# Altium schematic symbol library ToradexMainBoard-V0I1.SCHLIB: 303 symbols (part 9 of 14)
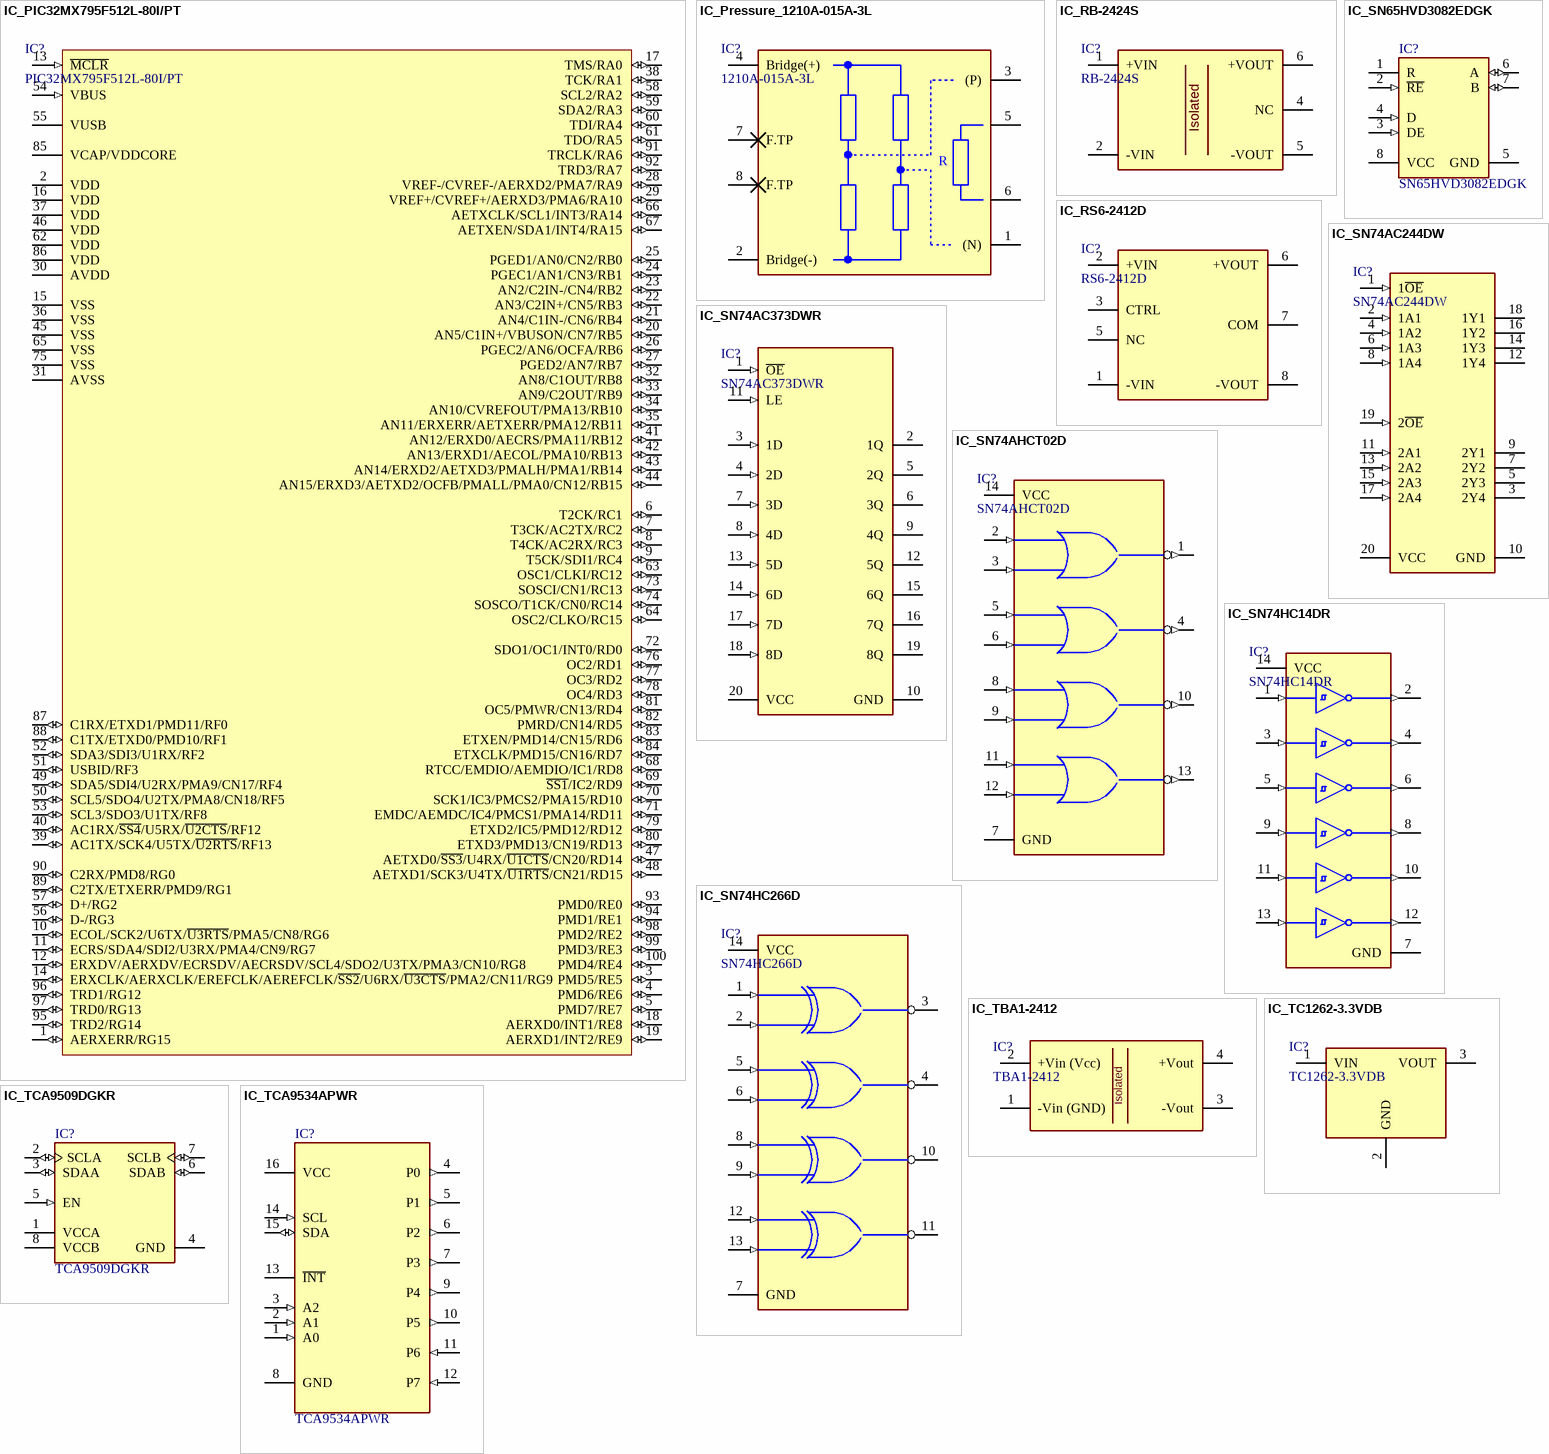
[diagram p23: symbols IC_PIC32MX795F512L-80I/PT to IC_TCA9534APWR]

## IC_RB-2424S
designator IC?, comment RB-2424S
CONV DC/DC 1W 24VIN 24VOUT; Manufacturer: Recom; Number of Outputs: 1; Efficiency: 85%; Min Input Voltage: 21.6V; Isolation Voltage: 1kV; Voltage - Output 1: 24V; Max Input Voltage: 26.4V; Max Output Current: 42mA; Isolation: Isolated; Supplier 1: Farnell; Manufacturer Part Number: RB-2424S; RoHS: Yes; Category: Voltage Regulators - Switching; Pricing 1: 1=6,41000, 5=5,31000, 10=4,76000, 20=4,39000, 50=4,10000 (EUR); Mount: Through Hole; Case/Package: SIP; Number of Pins: 5; Weight: 2.2g; Min Operating Temperature: -40°C; Max Operating Temperature: 85°C; Package Quantity: 25; Packaging: Rail/Tube; Series: ECONOLINE RB; Output Power: 1W; Max Power Dissipation: 1W; Max Output Voltage: 24V; Features: SCP; Nominal Input Voltage: 24V; Output Current: 42mA; Output Voltage: 24V; Length: 19.6mm; Width: 6mm; Height: 10.2mm; Depth: 6mm; RoHS Compliant: Yes; Lead Free: Lead Free; ComponentLink1URL: https://datasheet.ciiva.com/20216/84-2510e-20216936.pdf?src-supplier=Rapid+Electronics; ComponentLink1Description: https://datasheet.ciiva.com/20216/84-2510e-20216936.pdf?src-supplier=Rapid+Electronics; Supplier Part Number 1: 2846223
footprint RECOM-RB-2424S
pins: 1 +VIN (power) "Positive Supply Voltage, 2.7 V to 5.5 V.", 2 -VIN (power) "Positive Supply Voltage, 2.7 V to 5.5 V.", 4 NC (power) "Positive Supply Voltage, 2.7 V to 5.5 V.", 5 -VOUT (power) "Positive Supply Voltage, 2.7 V to 5.5 V.", 6 +VOUT (power) "Positive Supply Voltage, 2.7 V to 5.5 V."

## IC_RS6-2412D
designator IC?, comment RS6-2412D
DC DC CONVERTER +/-12V 6W; Manufacturer: Recom; Max Output Voltage: 12V; Supplier 1: Farnell; Manufacturer Part Number: RS6-2412D; RoHS: Yes; Category: Board Mount Modules; Stock 1: 22; Pricing 1: 1=21,50000, 5=20,04000, 10=18,61000, 20=17,17000, 50=15,74000 (EUR); Weight: 4g; Length: 21.8mm; Width: 9.2mm; Height: 11.1mm; Lead Free: Lead Free; RoHS Compliant: Yes; ComponentLink1URL: https://www.recom-power.com/pdf/Econoline/RS6.pdf?src-supplier=Digi-Key; ComponentLink1Description: https://www.recom-power.com/pdf/Econoline/RS6.pdf?src-supplier=Digi-Key; Supplier Part Number 1: 3255692
footprint Recom-RS6-2412D
pins: 1 -VIN (power) "A-side supplyVoltage (0.9V to VCCB - 1V)", 2 +VIN (power) "Supply ground", 3 CTRL (power) "B-side and device supplyVoltage (2.7V to 5.5V)", 5 NC (power) "B-side and device supplyVoltage (2.7V to 5.5V)", 6 +VOUT (power) "B-side and device supplyVoltage (2.7V to 5.5V)", 7 COM (power) "B-side and device supplyVoltage (2.7V to 5.5V)", 8 -VOUT (power) "B-side and device supplyVoltage (2.7V to 5.5V)"

## IC_SN65HVD3082EDGK
designator IC?, comment SN65HVD3082EDGK
TRANSCEIVER, RS485, 200KBPS, VSSOP-8; Device Type:Transceiver; IC Interface Type:RS485; No. of Drivers:1; Supply Voltage Min:4.5V; Supply Voltage Max:5.5V; Driver Case Style:VSSOP; No. of Pins:8; Operating Temperature Min:-40 C; ;RoHS Compliant: Yes; Manufacturer: Texas Instruments; Number of Transmitters: 1; Operating Supply Voltage: 5V; Min Supply Voltage: 4.5V; Max Supply Voltage: 5.5V; Nominal Supply Current: 900uA; Simplex/Duplex: Half Duplex; Supplier 1: Farnell; Manufacturer Part Number: SN65HVD3082EDGK; RoHS: Yes; Category: RS-232 / RS-422 / RS-485 Interface ICs; Stock 1: 125; Pricing 1: 1=2,81000, 10=2,23000, 25=2,10000, 50=1,90000, 100=1,68000, 250=1,47000, 500=1,43000, 1000=1,18000 (EUR); Case/Package: VSSOP; Number of Pins: 8; Weight: 0.00067oz; Contact Plating: Gold; Min Operating Temperature: -40°C; Max Operating Temperature: 85°C; Logic Function: Transceiver; Data Rate: 200Kbps; Number of Receivers: 1; Packaging: Rail/Tube; Number of Transceivers: 1; Package Quantity: 80; Number of Drivers: 1; Operating Supply Current: 900uA; Max Supply Current: 900uA; ESD Protection: Yes; Radiation Hardening: No; REACH SVHC: No SVHC; Lead Free: Lead Free; ComponentLink1URL: https://datasheet.ciiva.com/14427/sn65hvd3088e-14427605.pdf?src-supplier=Avnet; ComponentLink1Description: https://datasheet.ciiva.com/14427/sn65hvd3088e-14427605.pdf?src-supplier=Avnet; ComponentLink2URL: https://datasheet.ciiva.com/15151/getdatasheetpartid-241533-15151787.pdf?src-supplier=Verical; ComponentLink2Description: https://datasheet.ciiva.com/15151/getdatasheetpartid-241533-15151787.pdf?src-supplier=Verical; ComponentLink3URL: https://datasheet.ciiva.com/1766/sn65hvd3082e-1766596.pdf?src-supplier=Digi-Key; ComponentLink3Description: https://datasheet.ciiva.com/1766/sn65hvd3082e-1766596.pdf?src-supplier=Digi-Key; ComponentLink4URL: https://datasheet.ciiva.com/46393/1874612-46393162.pdf?src-supplier=Element14; ComponentLink4Description: https://datasheet.ciiva.com/46393/1874612-46393162.pdf?src-supplier=Element14; ComponentLink5URL: https://datasheet.ciiva.com/26030/sn65hvd3088e-26030892.pdf?src-supplier=Avnet+Europe; ComponentLink5Description: https://datasheet.ciiva.com/26030/sn65hvd3088e-26030892.pdf?src-supplier=Avnet+Europe; Supplier Part Number 1: 3007025
footprint IC_SN65HVD3082-TSOP8 (TSOP, 8-Leads, Body 3.1x3.1mm, Pitch 0.65mm, IPC High Density)
pins: 1 R (hiz), 2 ~{RE} (in), 3 DE (in), 4 D (in), 5 GND (power), 6 A (io), 7 B (io), 8 VCC (power)

## IC_SN74AC244DW
designator IC?, comment SN74AC244DW
NON INVERTING BUFFER, SOIC-20; Logic Device Type:Buffer, Non Inverting; Logic Case Style:SOIC; No. of Pins:20; Supply Voltage Min:2V; Supply Voltage Max:6V; Operating Temperature Min:-40 C; Operating Temperature Max:85 C ;RoHS Compliant: Yes; Manufacturer: Texas Instruments; Min Supply Voltage: 2V; Max Supply Voltage: 6V; Number of Channels: 8; Propagation Delay: 11.5ns; Logic Function: Buffer,Inverting; Number of Elements: 2; Number of Bits per Element: 4; High Level Output Current: -24mA; Low Level Output Current: 24mA; Polarity: Non-Inverting; Quiescent Current: 4uA; Supplier 1: Mouser; Manufacturer Part Number: SN74AC244DW; RoHS: Yes; Category: Buffers, Drivers and Transceivers; Stock 1: 370; Mount: Surface Mount; Case/Package: SOIC; Number of Pins: 20; Min Operating Temperature: -40°C; Max Operating Temperature: 85°C; Termination: SMD/SMT; Packaging: Rail/Tube; Package Quantity: 25; Number of Inputs: 8; Number of Outputs: 8; Number of Input Lines: 8; Number of Output Lines: 8; Turn-On Delay Time: 11.5ns; Number of Circuits: 8; Number of Bits: 8; Length: 12.8mm; Width: 7.52mm; Height: 2.35mm; Radiation Hardening: No; Lead Free: Lead Free; REACH SVHC: No SVHC; RoHS Compliant: Yes; ComponentLink1URL: https://datasheet.ciiva.com/14300/sn54ac244-sp-14300856.pdf?src-supplier=Avnet; ComponentLink1Description: https://datasheet.ciiva.com/14300/sn54ac244-sp-14300856.pdf?src-supplier=Avnet; ComponentLink2URL: https://datasheet.ciiva.com/15094/getdatasheetpartid-33810-15094058.pdf?src-supplier=Verical; ComponentLink2Description: https://datasheet.ciiva.com/15094/getdatasheetpartid-33810-15094058.pdf?src-supplier=Verical; ComponentLink3URL: https://datasheet.ciiva.com/41456/001016097-da-01-en-ic-b-dvr-sn74ac-sn74ac244dw-soic-20-tid-41456323.pdf?src-supplier=Conrad; ComponentLink3Description: https://datasheet.ciiva.com/41456/001016097-da-01-en-ic-b-dvr-sn74ac-sn74ac244dw-soic-20-tid-41456323.pdf?src-supplier=Conrad; ComponentLink4URL: https://datasheet.ciiva.com/26248/scas514e-26248230.pdf?src-supplier=Avnet+Europe; ComponentLink4Description: https://datasheet.ciiva.com/26248/scas514e-26248230.pdf?src-supplier=Avnet+Europe; ComponentLink5URL: https://datasheet.ciiva.com/7748/1814964-7748023.pdf?src-supplier=Element14; ComponentLink5Description: https://datasheet.ciiva.com/7748/1814964-7748023.pdf?src-supplier=Element14; ComponentLink6URL: https://datasheet.ciiva.com/1841/sn74ac244-1841918.pdf?src-supplier=Digi-Key; ComponentLink6Description: https://datasheet.ciiva.com/1841/sn74ac244-1841918.pdf?src-supplier=Digi-Key; Supplier Part Number 1: 595-SN74AC244DW
footprint SN74AC244DW_SOIC20 (SOIC, 20-Leads, Body 13x7.6mm, Pitch 1.27mm, IPC Medium Density)
pins: 1 1~{OE} (in) "Output Enable 1", 2 1A1 (in) "1A1 Input", 3 2Y4 (hiz) "2Y4 Output", 4 1A2 (in) "1A2 Input", 5 2Y3 (hiz) "2Y3 Output", 6 1A3 (in) "1A3 Input", 7 2Y2 (hiz) "2Y2 Output", 8 1A4 (in) "1A4 Input", 9 2Y1 (hiz) "2Y1 Output", 10 GND (power) "Ground Pin", 11 2A1 (in) "2A1 Input", 12 1Y4 (hiz) "1Y4 Output", 13 2A2 (in) "2A2 Input", 14 1Y3 (hiz) "1Y3 Output", 15 2A3 (in) "2A3 Input", 16 1Y2 (hiz) "1Y2 Output", 17 2A4 (in) "2A4 Input", 18 1Y1 (hiz) "1Y1 Output", 19 2~{OE} (in) "Output Enable 2", 20 VCC (power) "Power Pin"

## IC_SN74AC373DWR
designator IC?, comment SN74AC373DWR
Latch Transparent 3-ST 8-CH D-Type 20-Pin SOIC T/R; Manufacturer: Texas Instruments; Propagation Delay: 15ns; Max Supply Voltage: 6V; Min Supply Voltage: 2V; Number of Elements: 1; Turn-On Delay Time: 7.5ns; High Level Output Current: -24mA; Low Level Output Current: 24mA; Number of Circuits: 8; Polarity: Non-Inverting; Number of Output Lines: 3; Logic Function: D-Type,Latch; Output Type: 3-STATE; Quiescent Current: 4uA; Supplier 1: Mouser; Manufacturer Part Number: SN74AC373DWR; RoHS: Yes; Category: Latches and Flip Flops; Stock 1: 2816; Mount: Surface Mount; Case/Package: SOIC; Number of Pins: 20; Weight: 0.017662oz; Contact Plating: Gold; Min Operating Temperature: -40°C; Max Operating Temperature: 85°C; Package Quantity: 2000; Packaging: Tape and Reel; Number of Input Lines: 8; Number of Bits: 8; Number of Outputs: 8; Output Current: 24mA; Independent Circuits: 1; Series: 74AC; Technology: CMOS; Number of Channels: 8; Radiation Hardening: No; Lead Free: Lead Free; RoHS Compliant: Yes; REACH SVHC: No SVHC; ComponentLink1URL: https://datasheet.ciiva.com/1881/sn74ac373-1881568.pdf?src-supplier=Digi-Key; ComponentLink1Description: https://datasheet.ciiva.com/1881/sn74ac373-1881568.pdf?src-supplier=Digi-Key; ComponentLink2URL: https://datasheet.ciiva.com/34303/1998837-34303730.pdf?src-supplier=Jameco; ComponentLink2Description: https://datasheet.ciiva.com/34303/1998837-34303730.pdf?src-supplier=Jameco; ComponentLink3URL: https://datasheet.ciiva.com/15088/getdatasheetpartid-98665-15088188.pdf?src-supplier=Verical; ComponentLink3Description: https://datasheet.ciiva.com/15088/getdatasheetpartid-98665-15088188.pdf?src-supplier=Verical; ComponentLink4URL: https://datasheet.ciiva.com/1881/sn74ac373-1881569.pdf?src-supplier=Digi-Key; ComponentLink4Description: https://datasheet.ciiva.com/1881/sn74ac373-1881569.pdf?src-supplier=Digi-Key; ComponentLink5URL: https://datasheet.ciiva.com/1881/sn74ac373-1881570.pdf?src-supplier=Digi-Key; ComponentLink5Description: https://datasheet.ciiva.com/1881/sn74ac373-1881570.pdf?src-supplier=Digi-Key; ComponentLink6URL: https://datasheet.ciiva.com/14307/sn74ac373-14307743.pdf?src-supplier=Avnet; ComponentLink6Description: https://datasheet.ciiva.com/14307/sn74ac373-14307743.pdf?src-supplier=Avnet; Supplier Part Number 1: 595-SN74AC373DWR
footprint SN74AC373_SOIC20 (SOIC, 20-Leads, Body 13x7.6mm, Pitch 1.27mm, IPC Medium Density)
pins: 1 ~{OE} (in) "Output Enable", 2 1Q (hiz) "1Q Output", 3 1D (in) "1D Input", 4 2D (in) "2D Input", 5 2Q (hiz) "2Q Output", 6 3Q (hiz) "3Q Output", 7 3D (in) "3D Input", 8 4D (in) "4D Input", 9 4Q (hiz) "4Q Output", 10 GND (power) "Ground Pin", 11 LE (in) "Latch Enable", 12 5Q (hiz) "5Q Output", 13 5D (in) "5D Input", 14 6D (in) "6D Input", 15 6Q (hiz) "6Q Output", 16 7Q (hiz) "7Q Output", 17 7D (in) "7D Input", 18 8D (in) "8D Input", 19 8Q (hiz) "8Q Output", 20 VCC (power) "Power Pin"

## IC_SN74AHCT02D
designator IC?, comment SN74AHCT02D
IC GATE NOR 4CH 2-INP 14-SOIC; Manufacturer: Texas Instruments; Operating Supply Voltage: 5V; Number of Outputs: 1; Max Supply Voltage: 5.5V; Min Supply Voltage: 4.5V; Logic Function: NOR GATE; Number of Elements: 4; Propagation Delay: 8.5ns; Output Current: 8mA; Number of Inputs: 2; Quiescent Current: 2uA; High Level Output Current: -8mA; Schmitt Trigger Input: No; Supplier 1: Farnell; Manufacturer Part Number: SN74AHCT02D; RoHS: Yes; Category: Logic Gates; Stock 1: 114; Pricing 1: 5=0,22500, 50=0,19600, 100=0,16700, 250=0,15200 (EUR); Mount: Surface Mount; Case/Package: SOIC; Number of Pins: 14; Weight: 0.004564oz; Min Operating Temperature: -40°C; Max Operating Temperature: 85°C; Packaging: Rail/Tube; Package Quantity: 50; Number of Gates: 4; Number of Input Lines: 2; Number of Output Lines: 1; Low Level Output Current: 8mA; Number of Circuits: 4; Turn-On Delay Time: 8.5ns; Number of Bits: 4; Length: 8.65mm; Width: 3.91mm; Height: 1.58mm; Radiation Hardening: No; REACH SVHC: No SVHC; Lead Free: Lead Free; ComponentLink1URL: https://datasheet.ciiva.com/14291/sn54ahct02-14291194.pdf?src-supplier=Avnet; ComponentLink1Description: https://datasheet.ciiva.com/14291/sn54ahct02-14291194.pdf?src-supplier=Avnet; ComponentLink2URL: https://datasheet.ciiva.com/1876/sn74ahct02-1876061.pdf?src-supplier=Digi-Key; ComponentLink2Description: https://datasheet.ciiva.com/1876/sn74ahct02-1876061.pdf?src-supplier=Digi-Key; ComponentLink3URL: https://datasheet.ciiva.com/26218/sn54ahct02-26218111.pdf?src-supplier=Avnet+Europe; ComponentLink3Description: https://datasheet.ciiva.com/26218/sn54ahct02-26218111.pdf?src-supplier=Avnet+Europe; Supplier Part Number 1: 1739981
footprint 74AHCT02_SOIC14 (SOIC, 14-Leads, Body 8.75x4mm, Pitch 1.27mm, IPC Low Density)
pins: 1 1Y (out) "1Y output", 2 1A (in) "1A input", 3 1B (in) "1B input", 4 2Y (out) "2Y output", 5 2A (in) "2A input", 6 2B (in) "2B input", 7 GND (power), 8 3A (in) "3A input", 9 3B (in) "3B input", 10 3Y (out) "3Y output", 11 4A (in) "4A input", 12 4B (in) "4B input", 13 4Y (out) "4Y output", 14 VCC (power)

## IC_SN74HC14DR
designator IC?, comment SN74HC14DR
Inverter Schmitt Trigger 6-Element CMOS 14-Pin SOIC T/R; Manufacturer: Texas Instruments; Min Supply Voltage: 2V; Max Supply Voltage: 6V; Logic Function: Buffer,Inverter,Schmitt Trigger; Number of Elements: 6; Operating Supply Voltage: 5V; Number of Inputs: 1; Propagation Delay: 155ns; Quiescent Current: 2uA; High Level Output Current: -5.2mA; Low Level Output Current: 5.2mA; Turn-On Delay Time: 31ns; Schmitt Trigger Input: Yes; Supplier 1: Mouser; Manufacturer Part Number: SN74HC14DR; RoHS: Yes; Category: Logic Gates; Mount: Surface Mount; Case/Package: SOIC; Number of Pins: 14; Weight: 0.004318oz; Contact Plating: Gold; Min Operating Temperature: -40°C; Max Operating Temperature: 85°C; Packaging: Tape and Reel; Package Quantity: 2500; Number of Circuits: 6; Number of Gates: 6; Number of Bits: 6; Series: 74HC; Input Type: SCHMITT TRIGGER; Technology: CMOS; Output Current: 5.2mA; Length: 8.65mm; Width: 3.91mm; Height: 1.58mm; Radiation Hardening: No; Lead Free: Lead Free; RoHS Compliant: Yes; REACH SVHC: No SVHC; ComponentLink1URL: https://datasheet.ciiva.com/19481/1999661-19481666.pdf?src-supplier=Jameco; ComponentLink1Description: https://datasheet.ciiva.com/19481/1999661-19481666.pdf?src-supplier=Jameco; ComponentLink2URL: https://datasheet.ciiva.com/15089/getdatasheetpartid-253157-15089478.pdf?src-supplier=Verical; ComponentLink2Description: https://datasheet.ciiva.com/15089/getdatasheetpartid-253157-15089478.pdf?src-supplier=Verical; ComponentLink3URL: https://datasheet.ciiva.com/7281/sn74hc14-7281611.pdf?src-supplier=Newark; ComponentLink3Description: https://datasheet.ciiva.com/7281/sn74hc14-7281611.pdf?src-supplier=Newark; ComponentLink4URL: https://datasheet.ciiva.com/1864/sn74hc14-1864641.pdf?src-supplier=Digi-Key; ComponentLink4Description: https://datasheet.ciiva.com/1864/sn74hc14-1864641.pdf?src-supplier=Digi-Key; ComponentLink5URL: https://datasheet.ciiva.com/1864/sn74hc14-1864642.pdf?src-supplier=Digi-Key; ComponentLink5Description: https://datasheet.ciiva.com/1864/sn74hc14-1864642.pdf?src-supplier=Digi-Key; ComponentLink6URL: https://datasheet.ciiva.com/1864/sn74hc14-1864643.pdf?src-supplier=Digi-Key; ComponentLink6Description: https://datasheet.ciiva.com/1864/sn74hc14-1864643.pdf?src-supplier=Digi-Key; ComponentLink7URL: https://datasheet.ciiva.com/14290/sn54hc14-14290367.pdf?src-supplier=Avnet; ComponentLink7Description: https://datasheet.ciiva.com/14290/sn54hc14-14290367.pdf?src-supplier=Avnet; Supplier Part Number 1: 595-SN74HC14DR
footprint IC_SN74HC14DR-SO14
pins: 1 1A (in), 2 1Y (out), 3 2A (in), 4 2Y (out), 5 3A (in), 6 3Y (out), 7 GND (power), 8 4Y (out), 9 4A (in), 10 5Y (out), 11 5A (in), 12 6Y (out), 13 6A (in), 14 VCC (power)

## IC_SN74HC266D
designator IC?, comment SN74HC266D
IC GATE XNOR 4CH 2IN OD 14SOIC; Manufacturer: Texas Instruments; Output Current: 50mA; Propagation Delay: 26ns; Number of Circuits: 4; Min Supply Voltage: 2V; Max Supply Voltage: 6V; Low Level Output Current: 5.2mA; Quiescent Current: 2uA; Logic Function: NOR GATE,XNOR; High Level Output Current: -5uA; Number of Inputs: 2; Operating Supply Voltage: 5V; Number of Outputs: 1; Schmitt Trigger Input: No; Supplier 1: Farnell; Manufacturer Part Number: SN74HC266D; RoHS: Yes; Category: Logic Gates; Stock 1: 1124; Pricing 1: 1=0,48800, 25=0,48100, 50=0,47400, 100=0,46700, 250=0,45900, 500=0,45200, 1000=0,44500, 2500=0,43800 (EUR); Mount: Surface Mount; Case/Package: SOIC; Number of Pins: 14; Weight: 0.004564oz; Contact Plating: Gold; Min Operating Temperature: -40°C; Max Operating Temperature: 85°C; Packaging: Rail/Tube; Package Quantity: 50; Number of Gates: 4; Turn-On Delay Time: 26ns; Number of Elements: 4; Number of Bits: 4; Number of Input Lines: 2; Number of Output Lines: 1; Length: 8.65mm; Width: 3.91mm; Height: 1.58mm; Radiation Hardening: No; Lead Free: Lead Free; REACH SVHC: No SVHC; ComponentLink1URL: https://datasheet.ciiva.com/26219/sn74hc266-26219587.pdf?src-supplier=Avnet+Europe; ComponentLink1Description: https://datasheet.ciiva.com/26219/sn74hc266-26219587.pdf?src-supplier=Avnet+Europe; ComponentLink2URL: https://datasheet.ciiva.com/41456/001016717-da-01-en-ic-qua-2in-ex-nor-sn74hc266d-soic-14-tid-41456865.pdf?src-supplier=Conrad; ComponentLink2Description: https://datasheet.ciiva.com/41456/001016717-da-01-en-ic-qua-2in-ex-nor-sn74hc266d-soic-14-tid-41456865.pdf?src-supplier=Conrad; ComponentLink3URL: https://datasheet.ciiva.com/1867/sn74hc266-1867266.pdf?src-supplier=Digi-Key; ComponentLink3Description: https://datasheet.ciiva.com/1867/sn74hc266-1867266.pdf?src-supplier=Digi-Key; ComponentLink4URL: https://datasheet.ciiva.com/7948/1831322-7948918.pdf?src-supplier=Element14; ComponentLink4Description: https://datasheet.ciiva.com/7948/1831322-7948918.pdf?src-supplier=Element14; ComponentLink5URL: https://datasheet.ciiva.com/14290/sn74hc266-14290570.pdf?src-supplier=Avnet; ComponentLink5Description: https://datasheet.ciiva.com/14290/sn74hc266-14290570.pdf?src-supplier=Avnet; Supplier Part Number 1: 3006569
footprint SN74HC266_SOIC14 (SOIC, 14-Leads, Body 8.75x4mm, Pitch 1.27mm, IPC Low Density)
pins: 1 1A (in), 2 1B (in), 3 1Y (oc), 4 2Y (oc), 5 2A (in), 6 2B (in), 7 GND (power), 8 3A (in), 9 3B (in), 10 3Y (oc), 11 4Y (oc), 12 4A (in), 13 4B (in), 14 VCC (power)

## IC_TBA1-2412
designator IC?, comment TBA1-2412
Manufacturer: Traco Power; Supplier 1: Farnell; Manufacturer Part Number: TBA1-2412; RoHS: No; Category: Board Mount Modules; Stock 1: 11; Pricing 1: 1=3,01000, 10=2,91000, 25=2,67000, 150=2,62000, 250=2,56000 (EUR); Supplier Part Number 1: 3259998
footprint Traco-TBA1-2412-THT
pins: 1 -Vin (GND), 2 +Vin (Vcc), 3 -Vout, 4 +Vout
text: Isolated

## IC_TC1262-3.3VDB
designator IC?, comment TC1262-3.3VDB
500mA Fixed Output CMOS LDO,  SOT-223; Manufacturer: Microchip; Output Voltage: 3.3V; Accuracy: 0.5%; Min Input Voltage: 2.7V; Max Input Voltage: 6V; Number of Outputs: 1; Dropout Voltage: 350mV; Polarity: Positive; Quiescent Current: 80uA; Supplier 1: Farnell; Manufacturer Part Number: TC1262-3.3VDB; RoHS: Yes; Category: Voltage Regulators - Linear; Stock 1: 2351; Pricing 1: 1=0,44500, 10=0,41000, 25=0,37500, 100=0,34000 (EUR); Mount: Surface Mount; Case/Package: SOT-223; Number of Pins: 3; Min Operating Temperature: -40°C; Max Operating Temperature: 125°C; Packaging: Rail/Tube; Max Output Current: 500mA; Output Current: 500mA; Package Quantity: 78; Output Type: Fixed; Number of Regulators: 1; Voltage Rating: 6V; Output Voltage Accuracy: 0.5%; Length: 6.7mm; Width: 3.7mm; Height: 1.7mm; Radiation Hardening: No; REACH SVHC: No SVHC; Lead Free: Lead Free; ComponentLink1URL: https://datasheet.ciiva.com/4885/21373b-68613-4885680.pdf?src-supplier=Mouser; ComponentLink1Description: https://datasheet.ciiva.com/4885/21373b-68613-4885680.pdf?src-supplier=Mouser; ComponentLink2URL: https://datasheet.ciiva.com/26344/651849-da-01-en-ic-reg-ldo-tc1262-3-3vdb-sot-223-3-mcp-26344412.pdf?src-supplier=Conrad; ComponentLink2Description: https://datasheet.ciiva.com/26344/651849-da-01-en-ic-reg-ldo-tc1262-3-3vdb-sot-223-3-mcp-26344412.pdf?src-supplier=Conrad; ComponentLink3URL: https://datasheet.ciiva.com/3224/21373b-3224181.pdf?src-supplier=Avnet; ComponentLink3Description: https://datasheet.ciiva.com/3224/21373b-3224181.pdf?src-supplier=Avnet; ComponentLink4URL: https://datasheet.ciiva.com/16491/21373b-16491925.pdf?src-supplier=Avnet+Asia; ComponentLink4Description: https://datasheet.ciiva.com/16491/21373b-16491925.pdf?src-supplier=Avnet+Asia; ComponentLink5URL: https://datasheet.ciiva.com/16493/21373c-16493594.pdf?src-supplier=Future+Electronics; ComponentLink5Description: https://datasheet.ciiva.com/16493/21373c-16493594.pdf?src-supplier=Future+Electronics; ComponentLink6URL: https://datasheet.ciiva.com/17363/21373b-17363674.pdf?src-supplier=Avnet+Europe; ComponentLink6Description: https://datasheet.ciiva.com/17363/21373b-17363674.pdf?src-supplier=Avnet+Europe; ComponentLink7URL: https://datasheet.ciiva.com/2040/filehandler-aspxddocname-en026002-2040971.pdf?src-supplier=Digi-Key; ComponentLink7Description: https://datasheet.ciiva.com/2040/filehandler-aspxddocname-en026002-2040971.pdf?src-supplier=Digi-Key; Supplier Part Number 1: 1852183
footprint TC1262_SOT-223
pins: 1 VIN (power) "A-side supplyVoltage (0.9V to VCCB - 1V)", 2 GND (power) "Supply ground", 3 VOUT (power) "B-side and device supplyVoltage (2.7V to 5.5V)"

## IC_TCA9509DGKR
designator IC?, comment TCA9509DGKR
TEXAS INSTRUMENTS - TCA9509DGKR - Interfaz Especializada, I2C, SMBus, Aplicaciones de Sistemas I2C Bus y SMBus, 900 mV, 5.5 V, VSSOP; Min Supply Voltage: 900mV; Max Supply Voltage: 5.5V; Propagation Delay: 132.8ns; Max Frequency: 400kHz; Number of Outputs: 2; Supplier 1: Farnell; Supplier Part Number 1: 3009545; Manufacturer: Texas Instruments; Manufacturer Part Number: TCA9509DGKR; RoHS: Yes; Category: Interface ICs; Stock 1: 1979; Pricing 1: 1=0,72700, 50=0,64300, 100=0,55800, 250=0,49400, 500=0,46600, 1000=0,36300, 2500=0,33500, 5000=0,32800 (EUR); Case/Package: VSSOP; Number of Pins: 8; Weight: 0.001058oz; Contact Plating: Gold; Min Operating Temperature: -40°C; Max Operating Temperature: 85°C; Packaging: Tape and Reel; Package Quantity: 1; Length: 3.1mm; Height: 0.95mm; Width: 3.1mm; Radiation Hardening: No; REACH SVHC: No SVHC; Lead Free: Lead Free; ComponentLink1URL: https://datasheet.ciiva.com/22791/tca9509-22791264.pdf?src-supplier=Farnell; ComponentLink1Description: https://datasheet.ciiva.com/22791/tca9509-22791264.pdf?src-supplier=Farnell; ComponentLink2URL: https://datasheet.ciiva.com/26911/getdatasheetpartid-476504-26911504.pdf?src-supplier=Verical; ComponentLink2Description: https://datasheet.ciiva.com/26911/getdatasheetpartid-476504-26911504.pdf?src-supplier=Verical; ComponentLink3URL: https://datasheet.ciiva.com/3149/tca9509-3149522.pdf?src-supplier=Avnet; ComponentLink3Description: https://datasheet.ciiva.com/3149/tca9509-3149522.pdf?src-supplier=Avnet; ComponentLink4URL: https://datasheet.ciiva.com/41460/001187989-da-01-en-ic-i2c-bus-rep-l-tca9509dgkr-vssop-8-tid-41460370.pdf?src-supplier=Conrad; ComponentLink4Description: https://datasheet.ciiva.com/41460/001187989-da-01-en-ic-i2c-bus-rep-l-tca9509dgkr-vssop-8-tid-41460370.pdf?src-supplier=Conrad; ComponentLink5URL: https://datasheet.ciiva.com/1784/tca9509-1784225.pdf?src-supplier=Digi-Key; ComponentLink5Description: https://datasheet.ciiva.com/1784/tca9509-1784225.pdf?src-supplier=Digi-Key; ComponentLink6URL: https://datasheet.ciiva.com/1784/tca9509-1784226.pdf?src-supplier=Digi-Key; ComponentLink6Description: https://datasheet.ciiva.com/1784/tca9509-1784226.pdf?src-supplier=Digi-Key; ComponentLink7URL: https://datasheet.ciiva.com/1784/tca9509-1784227.pdf?src-supplier=Digi-Key; ComponentLink7Description: https://datasheet.ciiva.com/1784/tca9509-1784227.pdf?src-supplier=Digi-Key; ComponentLink8URL: https://datasheet.ciiva.com/26005/tca9509-26005292.pdf?src-supplier=Avnet+Europe; ComponentLink8Description: https://datasheet.ciiva.com/26005/tca9509-26005292.pdf?src-supplier=Avnet+Europe
footprint TCA9509DGKR_VSSOP8 (TSOP, 8-Leads, Body 3.1x3.1mm, Pitch 0.65mm, IPC High Density)
pins: 1 VCCA (power) "A-side supplyVoltage (0.9V to VCCB - 1V)", 2 SCLA (io) "Serial clock bus, A side.", 3 SDAA (io) "Serial data bus, A side.", 4 GND (power) "Supply ground", 5 EN (in) "Active-high repeater enable input", 6 SDAB (io) "Serial data bus, B side. Connect to VCCB through a pullup resistor.", 7 SCLB (io) "Serial clock bus, B side. Connect to VCCB through a pullup resistor.", 8 VCCB (power) "B-side and device supplyVoltage (2.7V to 5.5V)"

## IC_TCA9534APWR
designator IC?, comment TCA9534APWR
IC I/O EXPANDER I2C 8B 16TSSOP; Manufacturer: Texas Instruments; Number of I/Os: 8; Frequency: 400kHz; Supplier 1: Mouser; Manufacturer Part Number: TCA9534APWR; RoHS: Yes; Category: Interface ICs; Stock 1: 3722; Pricing 1: 1=1,19000, 10=1,01000, 100=0,77500, 250=0,68500, 500=0,64800, 1000=0,50400 (USD); Mount: Surface Mount; Case/Package: TSSOP; Number of Pins: 16; Contact Plating: Gold; Min Operating Temperature: -40°C; Max Operating Temperature: 85°C; Packaging: Tape and Reel; Interface: I2C; Number of Outputs: 8; Lead Free: Lead Free; ComponentLink1URL: http://www.ti.com/lit/pdf/sszc003?src-supplier=Digi-Key; ComponentLink1Description: http://www.ti.com/lit/pdf/sszc003?src-supplier=Digi-Key; ComponentLink2URL: http://www.ti.com/general/docs/lit/getliterature.tsp?genericPartNumber=TCA9534A&&fileType=pdf&src-supplier=Avnet; ComponentLink2Description: http://www.ti.com/general/docs/lit/getliterature.tsp?genericPartNumber=TCA9534A&&fileType=pdf&src-supplier=Avnet; ComponentLink3URL: http://www.ti.com/lit/ds/symlink/tca9534a.pdf?src-supplier=Digi-Key; ComponentLink3Description: http://www.ti.com/lit/ds/symlink/tca9534a.pdf?src-supplier=Digi-Key; ComponentLink4URL: http://www.ti.com/general/docs/lit/getliterature.tsp?genericPartNumber=TCA9534A&&fileType=pdf&src-supplier=Avnet+Asia; ComponentLink4Description: http://www.ti.com/general/docs/lit/getliterature.tsp?genericPartNumber=TCA9534A&&fileType=pdf&src-supplier=Avnet+Asia; Supplier Part Number 1: 595-TCA9534APWR
footprint TCA9534APWR_TSSOP16
pins: 1 A0 (in), 2 A1 (in), 3 A2 (in), 4 P0 (out), 5 P1 (out), 6 P2 (out), 7 P3 (out), 8 GND (power), 9 P4 (out), 10 P5 (out), 11 P6 (in), 12 P7 (in), 13 ~{INT} (oc), 14 SCL (in), 15 SDA (io), 16 VCC (power)

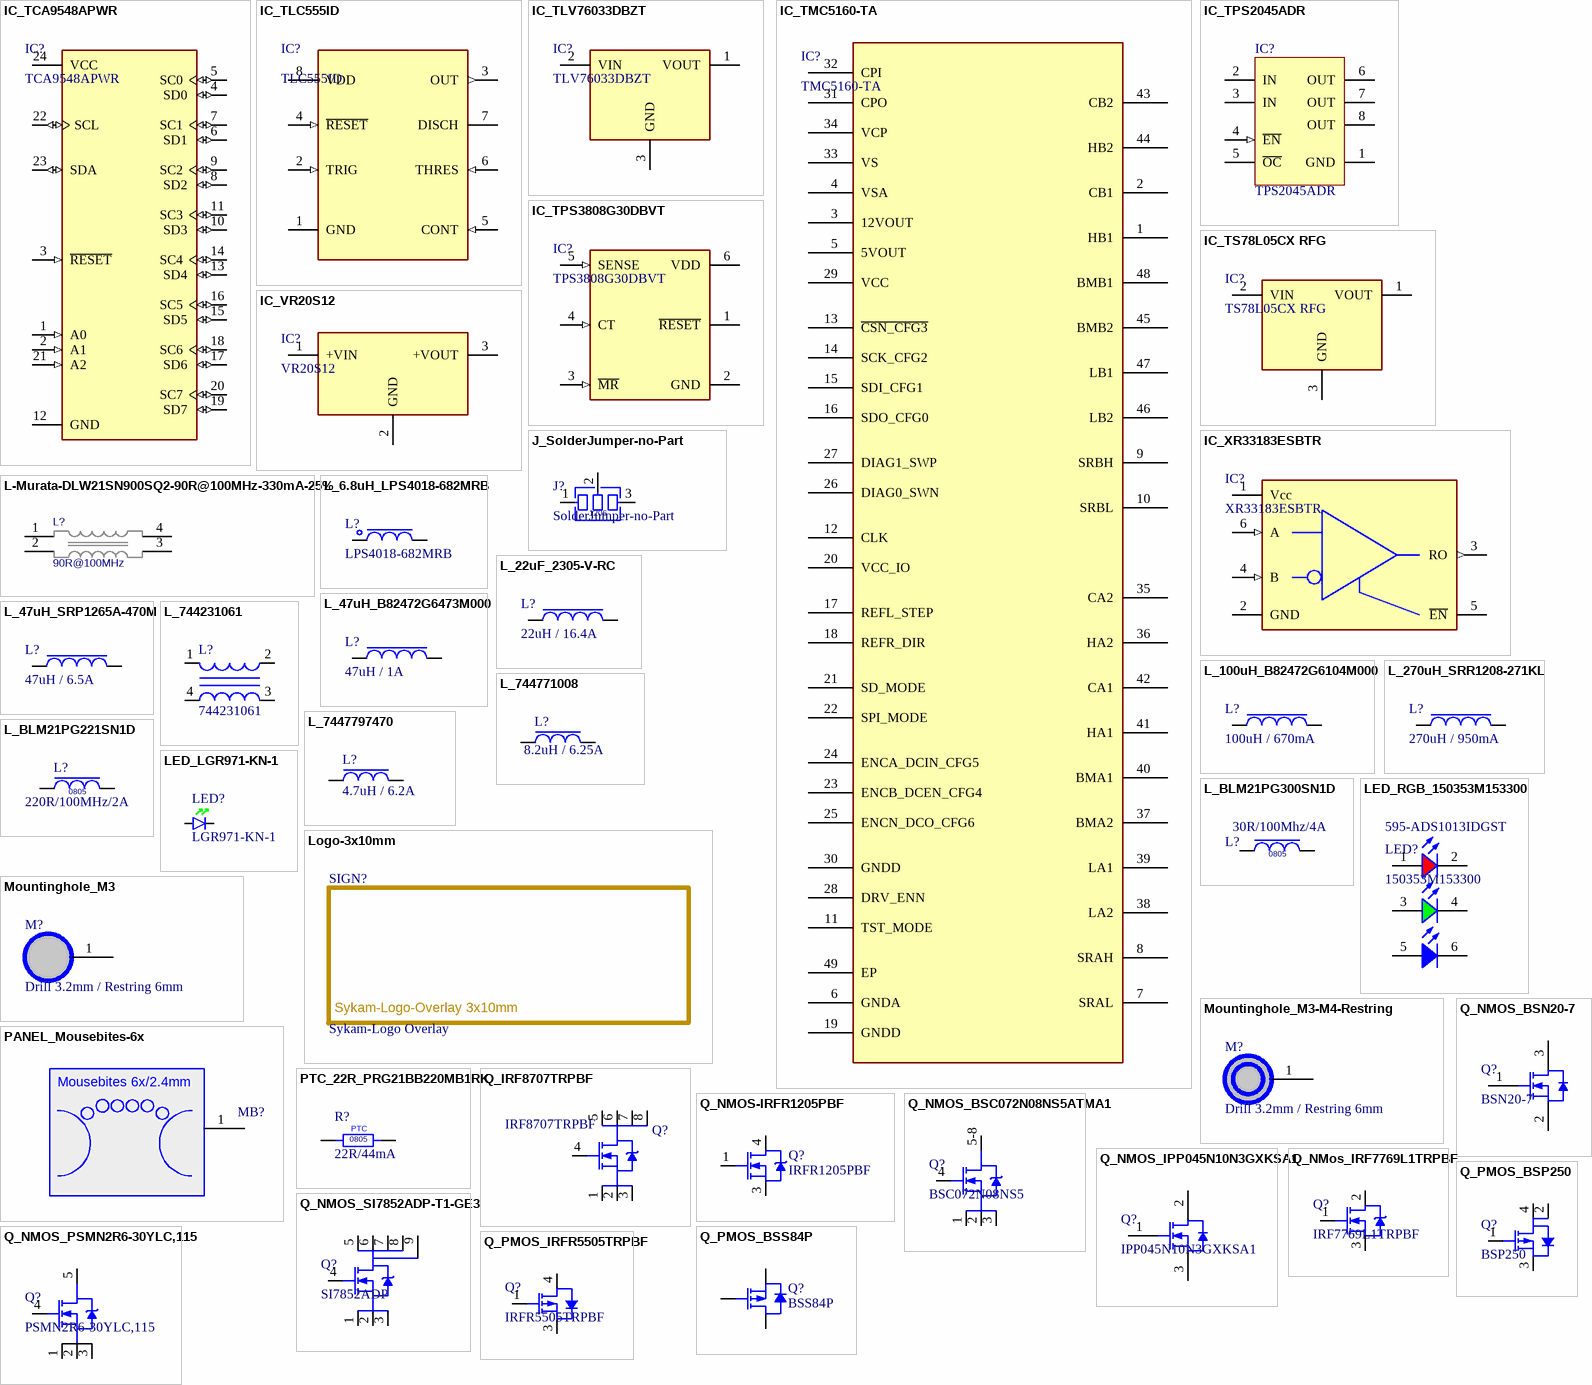
[diagram p13: symbols IC_TCA9548APWR to Q_PMOS_IRFR5505TRPBF]

## IC_TCA9548APWR
designator IC?, comment TCA9548APWR
IC I2C SW 8CH W/RESET 24TSSOP; Manufacturer: Texas Instruments; Supply Type: Single; Independent Circuits: 1; Max Supply Voltage: 5.5V; Min Supply Voltage: 1.65V; On-State Resistance: 70R; Max Supply Current: 80uA; Supplier 1: Mouser; Manufacturer Part Number: TCA9548APWR; RoHS: Yes; Category: Decoders and Multiplexers; Stock 1: 4104; Mount: Surface Mount; Case/Package: TSSOP; Number of Pins: 24; Contact Plating: Gold; Min Operating Temperature: -40°C; Max Operating Temperature: 85°C; Packaging: Tape and Reel; Package Quantity: 2000; Series: TCA; RoHS Compliant: Yes; Lead Free: Lead Free; Reach SVHC Compliant: Yes; ComponentLink1URL: https://datasheet.ciiva.com/6614/tca9548a-6614721.pdf?src-supplier=Digi-Key; ComponentLink1Description: https://datasheet.ciiva.com/6614/tca9548a-6614721.pdf?src-supplier=Digi-Key; Supplier Part Number 1: 595-TCA9548APWR
footprint IC-TCA9548-TSSOP24
pins: 1 A0 (in), 2 A1 (in), 3 ~{RESET} (in), 4 SD0 (io), 5 SC0 (io), 6 SD1 (io), 7 SC1 (io), 8 SD2 (io), 9 SC2 (io), 10 SD3 (io), 11 SC3 (io), 12 GND (power), 13 SD4 (io), 14 SC4 (io), 15 SD5 (io), 16 SC5 (io), 17 SD6 (io), 18 SC6 (io), 19 SD7 (io), 20 SC7 (io), 21 A2 (in), 22 SCL (io), 23 SDA (io), 24 VCC (power)

## IC_TLC555ID
designator IC?, comment TLC555ID
Standard Timer Single 8-Pin SOIC Tube; Manufacturer: Texas Instruments; Current Rating: 250A; Min Supply Voltage: 2V; Max Supply Voltage: 15V; Operating Supply Voltage: 3.3V; Max Power Dissipation: 725mW; Frequency: 2.1MHz; Nominal Supply Current: 250uA; Number of Timers/Counters: 1; Operating Supply Current: 360uA; High Level Output Current: -10mA; Low Level Output Current: 100mA; Supplier 1: Farnell; Manufacturer Part Number: TLC555ID; RoHS: Yes; Category: Timers and Oscillators; Stock 1: 5970; Pricing 1: 1=0,63200, 50=0,55200, 100=0,43200, 250=0,42300, 500=0,36700, 1000=0,34400, 2500=0,32000, 5000=0,29700 (EUR); Mount: Surface Mount; Case/Package: SOIC; Number of Pins: 8; Weight: 0.002561oz; Contact Plating: Gold; Min Operating Temperature: -40°C; Max Operating Temperature: 125°C; Packaging: Rail/Tube; Package Quantity: 75; Power Dissipation: 725mW; Quiescent Current: 250uA; Length: 4.9mm; Width: 3.91mm; Height: 1.58mm; Radiation Hardening: No; REACH SVHC: No SVHC; Lead Free: Lead Free; ComponentLink1URL: https://datasheet.ciiva.com/19457/761281-19457380.pdf?src-supplier=Jameco; ComponentLink1Description: https://datasheet.ciiva.com/19457/761281-19457380.pdf?src-supplier=Jameco; ComponentLink2URL: https://datasheet.ciiva.com/26795/tlc555id-26795358.pdf?src-supplier=IIIC; ComponentLink2Description: https://datasheet.ciiva.com/26795/tlc555id-26795358.pdf?src-supplier=IIIC; ComponentLink3URL: https://datasheet.ciiva.com/6668/tlc555-6668277.pdf?src-supplier=Digi-Key; ComponentLink3Description: https://datasheet.ciiva.com/6668/tlc555-6668277.pdf?src-supplier=Digi-Key; ComponentLink4URL: https://datasheet.ciiva.com/14274/tlc555-14274503.pdf?src-supplier=Avnet; ComponentLink4Description: https://datasheet.ciiva.com/14274/tlc555-14274503.pdf?src-supplier=Avnet; ComponentLink5URL: https://datasheet.ciiva.com/1140/1834067-1140138.pdf?src-supplier=Element14; ComponentLink5Description: https://datasheet.ciiva.com/1140/1834067-1140138.pdf?src-supplier=Element14; ComponentLink6URL: https://datasheet.ciiva.com/26116/tlc555-26116191.pdf?src-supplier=Avnet+Europe; ComponentLink6Description: https://datasheet.ciiva.com/26116/tlc555-26116191.pdf?src-supplier=Avnet+Europe; Supplier Part Number 1: 3121209
footprint TLC555-SOIC8
pins: 1 GND (power), 2 TRIG (in), 3 OUT (out), 4 ~{RESET} (in), 5 CONT (in), 6 THRES (in), 7 DISCH (oc), 8 VDD (power)

## IC_TLV76033DBZT
designator IC?, comment TLV76033DBZT
LDO Regulator Pos 3.3V 0.1A 3-Pin SOT-23 T/R; Manufacturer: Texas Instruments; Output Type: Fixed; Output Configuration: Positive; Number of Regulators: 1; Max Input Voltage: 30V; Dropout Voltage: 1.1V; Output Current: 100mA; Quiescent Current: 5mA; Supplier 1: Mouser; Manufacturer Part Number: TLV76033DBZT; RoHS: Yes; Category: Voltage Regulators - Linear; Pricing 1: 1=1,03000, 10=0,92600, 50=0,87900, 100=0,72200, 1000=0,67400, 10000=0,67400, 1=0,90100, 10=0,81000, 25=0,76900, 100=0,63200, 250=0,59000 (USD); Mount: Surface Mount; Case/Package: TO-236-3; Min Operating Temperature: -40°C; Max Operating Temperature: 125°C; Packaging: Tape and Reel; Min Output Voltage: 3.3V; RoHS Compliant: Yes; ComponentLink1URL: http://www.ti.com/lit/ds/symlink/tlv760.pdf?src-supplier=Digi-Key; ComponentLink1Description: http://www.ti.com/lit/ds/symlink/tlv760.pdf?src-supplier=Digi-Key; ComponentLink2URL: http://www.ti.com/general/docs/lit/getliterature.tsp?genericPartNumber=TLV760&fileType=pdf&src-supplier=Farnell; ComponentLink2Description: http://www.ti.com/general/docs/lit/getliterature.tsp?genericPartNumber=TLV760&fileType=pdf&src-supplier=Farnell; Supplier Part Number 1: 595-TLV76033DBZT
footprint TLV76033_SOT23
pins: 1 VOUT (power) "B-side and device supplyVoltage (2.7V to 5.5V)", 2 VIN (power) "A-side supplyVoltage (0.9V to VCCB - 1V)", 3 GND (power) "Supply ground"

## IC_TMC5160-TA
designator IC?, comment TMC5160-TA
TRINAMIC - TMC5160-TA - Motor Driver/Controller, Stepper, 8V to 60V, 20A/1 Output, SPI Interface, TQFP-48; Logic Function: AND GATE; Output Current: 20A; Supplier 1: Farnell; Manufacturer: Trinamic; Manufacturer Part Number: TMC5160-TA; RoHS: No; Stock 1: 12; Pricing 1: 1=7,83000, 10=7,06000, 25=6,82000, 50=6,43000, 100=6,03000, 250=5,86000 (EUR); Mount: Surface Mount; Min Operating Temperature: -40°C; Max Operating Temperature: 125°C; Interface: SPI; Packaging: Tray; ComponentLink1URL: http://www.farnell.com/datasheets/2580153.pdf?src-supplier=Farnell; ComponentLink1Description: http://www.farnell.com/datasheets/2580153.pdf?src-supplier=Farnell; ComponentLink2URL: https://www.trinamic.com/fileadmin/assets/Products/ICs_Documents/TMC5160_Datasheet_V1.01.pdf?src-supplier=Digi-Key; ComponentLink2Description: https://www.trinamic.com/fileadmin/assets/Products/ICs_Documents/TMC5160_Datasheet_V1.01.pdf?src-supplier=Digi-Key; ComponentLink3URL: http://www.farnell.com/datasheets/2580153.pdf?src-supplier=Newark; ComponentLink3Description: http://www.farnell.com/datasheets/2580153.pdf?src-supplier=Newark; Supplier Part Number 1: 2846894
footprint TMC5160-TQFP48 (QFP, 48-Leads, Body 7x7mm, Pitch 0.5mm, IPC Medium Density)
pins: 1 HB1, 2 CB1, 3 12VOUT, 4 VSA, 5 5VOUT, 6 GNDA, 7 SRAL, 8 SRAH, 9 SRBH, 10 SRBL, 11 TST_MODE, 12 CLK, 13 ~{CSN_CFG3}, 14 SCK_CFG2, 15 SDI_CFG1, 16 SDO_CFG0, 17 REFL_STEP, 18 REFR_DIR, 19 GNDD, 20 VCC_IO, 21 SD_MODE, 22 SPI_MODE, 23 ENCB_DCEN_CFG4, 24 ENCA_DCIN_CFG5, 25 ENCN_DCO_CFG6, 26 DIAG0_SWN, 27 DIAG1_SWP, 28 DRV_ENN, 29 VCC, 30 GNDD, 31 CPO, 32 CPI, 33 VS, 34 VCP, 35 CA2, 36 HA2, 37 BMA2, 38 LA2, 39 LA1, 40 BMA1, 41 HA1, 42 CA1, 43 CB2, 44 HB2, 45 BMB2, 46 LB2, 47 LB1, 48 BMB1, 49 EP

## IC_TPS2045ADR
designator IC?, comment TPS2045ADR
IC 500MA PWR DIST SWITCH 8-SOIC; Manufacturer: Texas Instruments; Min Supply Voltage: 2.7V; Max Supply Voltage: 5.5V; Number of Outputs: 1; Interface: On/Off; Max Output Current: 250mA; Fault Protection: Over Temperature; Output Configuration: High Side; Supplier 1: Mouser; Manufacturer Part Number: TPS2045ADR; RoHS: Yes; Category: Hot Swap Controllers; Stock 1: 3866; Pricing 1: 1=1,45000, 10=1,24000, 100=0,94700, 250=0,83700, 500=0,79200, 1000=0,61600 (USD); Case/Package: D; Number of Pins: 8; Weight: 0.002561oz; Min Operating Temperature: 0°C; Max Operating Temperature: 85°C; Package Quantity: 2500; Packaging: Tape and Reel; Max Input Voltage: 5.5V; Min Input Voltage: 2.7V; Radiation Hardening: No; Lead Free: Lead Free; ComponentLink1URL: https://datasheet.ciiva.com/15108/getdatasheetpartid-534204-15108601.pdf?src-supplier=Verical; ComponentLink1Description: https://datasheet.ciiva.com/15108/getdatasheetpartid-534204-15108601.pdf?src-supplier=Verical; ComponentLink2URL: https://datasheet.ciiva.com/26882/tps2045adr-26882286.pdf?src-supplier=IIIC; ComponentLink2Description: https://datasheet.ciiva.com/26882/tps2045adr-26882286.pdf?src-supplier=IIIC; ComponentLink3URL: https://datasheet.ciiva.com/26071/tps2055a-26071704.pdf?src-supplier=Avnet+Europe; ComponentLink3Description: https://datasheet.ciiva.com/26071/tps2055a-26071704.pdf?src-supplier=Avnet+Europe; ComponentLink4URL: https://datasheet.ciiva.com/1963/tps2045a-1963566.pdf?src-supplier=Digi-Key; ComponentLink4Description: https://datasheet.ciiva.com/1963/tps2045a-1963566.pdf?src-supplier=Digi-Key; Supplier Part Number 1: 595-TPS2045ADR
footprint TPS2045_SOIC8 (MCP6072)
pins: 1 GND (power) "Ground", 2 IN (power) "Input voltage", 3 IN (power) "Input voltage", 4 ~{EN} (in) "Enable input. Logic low turns on power switch.", 5 ~{OC} (oc) "Overcurrent. Open drain output active low", 6 OUT (power) "Power-switch output", 7 OUT (power) "Power-switch output", 8 OUT (power) "Power-switch output"

## IC_TPS3808G30DBVT
designator IC?, comment TPS3808G30DBVT
TEXAS INSTRUMENTS - TPS3808G30DBVT . - Voltage Supervisor 3.0V, Manual Reset, Active-Low Reset, 1.7V-6.5Vin, SOT-23-6; Min Supply Voltage: 1.65V; Max Supply Voltage: 6.5V; Watchdog Timer: No; Max Reset Threshold Voltage: 2.803V; Min Reset Threshold Voltage: 2.776V; Operating Supply Voltage: 3V; Number of Voltages Monitored: 1; Reset: Active Low; Threshold Voltage: 2.79V; Operating Supply Current: 2.4uA; Nominal Supply Current: 2.7uA; Supplier 1: Mouser; Manufacturer: Texas Instruments; Manufacturer Part Number: TPS3808G30DBVT; RoHS: Yes; Category: Voltage Supervisors; Stock 1: 8976; Pricing 1: 1=1,87000, 10=1,69000, 50=1,60000, 100=1,36000, 1000=1,27000, 10000=1,27000, 1=1,58000, 10=1,43000, 25=1,36000, 100=1,15000, 250=1,08000 (USD); Case/Package: SOT-23; Number of Pins: 6; Min Operating Temperature: -40°C; Max Operating Temperature: 125°C; Packaging: Tape and Reel; Package Quantity: 250; Overvoltage Threshold: 2.803V; Undervoltage Threshold: 2.79V; Number of Elements: 1; Quiescent Current: 2.4uA; Length: 2.9mm; Width: 1.6mm; Height: 1.15mm; Radiation Hardening: No; Lead Free: Lead Free; REACH SVHC: No SVHC; ComponentLink1URL: https://datasheet.ciiva.com/15105/getdatasheetpartid-111250-15105863.pdf?src-supplier=Verical; ComponentLink1Description: https://datasheet.ciiva.com/15105/getdatasheetpartid-111250-15105863.pdf?src-supplier=Verical; ComponentLink2URL: https://datasheet.ciiva.com/22710/1882049-22710245.pdf?src-supplier=Element14; ComponentLink2Description: https://datasheet.ciiva.com/22710/1882049-22710245.pdf?src-supplier=Element14; ComponentLink3URL: https://datasheet.ciiva.com/1981/tps3808g01-1981136.pdf?src-supplier=Digi-Key; ComponentLink3Description: https://datasheet.ciiva.com/1981/tps3808g01-1981136.pdf?src-supplier=Digi-Key; ComponentLink4URL: https://datasheet.ciiva.com/1981/tps3808g01-1981135.pdf?src-supplier=Digi-Key; ComponentLink4Description: https://datasheet.ciiva.com/1981/tps3808g01-1981135.pdf?src-supplier=Digi-Key; ComponentLink5URL: https://datasheet.ciiva.com/1981/tps3808g01-1981137.pdf?src-supplier=Digi-Key; ComponentLink5Description: https://datasheet.ciiva.com/1981/tps3808g01-1981137.pdf?src-supplier=Digi-Key; ComponentLink6URL: https://datasheet.ciiva.com/14207/tps3808g01-14207048.pdf?src-supplier=Avnet; ComponentLink6Description: https://datasheet.ciiva.com/14207/tps3808g01-14207048.pdf?src-supplier=Avnet; Supplier Part Number 1: 595-TPS3808G30DBVT
footprint TPS3808G30_DBV0006A_L (SOT23, 6-Leads, Body 3.05x1.75mm, Pitch 0.95mm, IPC High Density)
pins: 1 ~{RESET} (hiz) "R\E\S\E\T\ is an open-drain output that is driven to a low impedance state when R\E\S\E\T\ is asserted (either the SENSE input is lower than the threshold voltage (VIT) or the M\R\ pin is set to a logic low). R\E\S\E\T\ will (See Datasheet)", 2 GND (power) "Ground", 3 ~{MR} (in) "Driving the manual reset pin (M\R\) low asserts R\E\S\E\T\. M\R\ is internally tied to VDD by a 90k ohm pull-up resistor", 4 CT (in) "Reset period programming pin. Connecting this pin to VDD through a 40k ohm to 200k ohm resistor or leaving it open results in fixed delay times (see Electrical Characteristics). Connecting this pin to a ground referenced (See Datasheet)", 5 SENSE (in) "This pin is connected to the voltage to be monitored. If the voltage at this terminal drops below the threshold voltage VIT, then R\E\S\E\T\ is asserted.", 6 VDD (power) "Supply voltage. It is good analog design practice to place a 0.1µF ceramic capacitor close to this pin."

## IC_TS78L05CX RFG
designator IC?, comment TS78L05CX RFG
Linear Regulator Pos 5V 100mA 3-Pin SOT-23 T/R; Manufacturer: Taiwan Semiconductor; Min Input Voltage: 0V; Max Input Voltage: 35V; Number of Outputs: 1; Output Type: Fixed; Output Configuration: Positive; Quiescent Current: 6mA; Power Supply Rejection Ratio (PSRR): 49dB; Supplier 1: Farnell; Manufacturer Part Number: TS78L05CX RFG; RoHS: Yes; Category: Voltage Regulators - Linear; Stock 1: 14368; Pricing 1: 1=0,64900, 10=0,55200, 100=0,38300, 500=0,32500 (EUR); Mount: Surface Mount; Case/Package: SOT-23; Number of Pins: 3; Min Operating Temperature: 0°C; Max Operating Temperature: 150°C; Nominal Output Voltage: 5V; Output Current: 100mA; Packaging: Tape and Reel; Series: -; Number of Regulators: 1; Min Output Voltage: 5V; Reach SVHC Compliant: Yes; RoHS Compliant: Yes; ComponentLink1URL: http://www.farnell.com/datasheets/2044138.pdf?src-supplier=Farnell; ComponentLink1Description: http://www.farnell.com/datasheets/2044138.pdf?src-supplier=Farnell; ComponentLink2URL: http://www.farnell.com/datasheets/4546.pdf?src-supplier=Element14; ComponentLink2Description: http://www.farnell.com/datasheets/4546.pdf?src-supplier=Element14; ComponentLink3URL: http://www.taiwansemi.com/products/datasheet/TS78L00_I15.pdf?src-supplier=Digi-Key; ComponentLink3Description: http://www.taiwansemi.com/products/datasheet/TS78L00_I15.pdf?src-supplier=Digi-Key; Supplier Part Number 1: 1476698
footprint TS78L05CX-RFG_SOT23
pins: 1 VOUT (power) "B-side and device supplyVoltage (2.7V to 5.5V)", 2 VIN (power) "A-side supplyVoltage (0.9V to VCCB - 1V)", 3 GND (power) "Supply ground"

## IC_VR20S12
designator IC?, comment VR20S12
DC-DC Converter, Switching Regulater, 2A, SIP, VR Series; Manufacturer: XP Power; Supplier 1: Farnell; Manufacturer Part Number: VR20S12; RoHS: No; Category: Board Mount Modules; Pricing 1: 1=6,07000, 5=5,88000, 10=5,70000, 20=5,46000, 50=5,10000 (EUR); Supplier Part Number 1: 3525433
footprint IC_VR20S12_THT (Pin Header, pitch 2.54 mm, THT, Vertical, single row, 3p)
pins: 1 +VIN (power) "Positive Supply Voltage, 2.7 V to 5.5 V.", 2 GND (power) "Positive Supply Voltage, 2.7 V to 5.5 V.", 3 +VOUT (power) "Positive Supply Voltage, 2.7 V to 5.5 V."

## IC_XR33183ESBTR
designator IC?, comment XR33183ESBTR
IC Receiver 0/1 TSOT23-6 / Mouser 701-XR33183ESBTR; Manufacturer: MaxLinear; Receiver Hysteresis: 25mV; Data Rate: 52Mbps; Supplier 1: Mouser; Manufacturer Part Number: XR33183ESBTR; RoHS: Yes; Category: Interface ICs; Stock 1: 6927; Mount: Surface Mount; Case/Package: SOT-23-6; Min Operating Temperature: -40°C; Max Operating Temperature: 125°C; Packaging: Cut Tape; RoHS Compliant: Yes; ComponentLink1URL: https://www.exar.com/content/document.ashx?id=22070&src-supplier=Digi-Key; ComponentLink1Description: https://www.exar.com/content/document.ashx?id=22070&src-supplier=Digi-Key; Supplier Part Number 1: 701-XR33183ESBTR
footprint XR33183ESBTR_TSOT23
pins: 1 Vcc (power) "Power Supply Input: 2.7V to 26.4V", 2 GND (power) "Power Supply Input: 2.7V to 26.4V", 3 RO (out) "Power Supply Input: 2.7V to 26.4V", 4 B (in) "Power Supply Input: 2.7V to 26.4V", 5 ~{EN} (power) "Power Supply Input: 2.7V to 26.4V", 6 A (in) "Power Supply Input: 2.7V to 26.4V"

## J_SolderJumper-no-Part
designator J?, comment SolderJumper-no-Part  (no BOM)
SolderJumper-no-Part 1206
footprint SolderJumper-R1206
pins: 1, 2, 3
text: 1206

## L-Murata-DLW21SN900SQ2-90R@100MHz-330mA-25%
designator L?, comment 90R@100MHz
Inductor, SMD 330 mA, DLW21SN900SQ2L, Murata; Rating: 330mA; Tolerance: 25%; Insulation Resistance: 10MR; DC Resistance (DCR): 350mR; Test Frequency: 100MHz; Number of Lines: 2; Impedance: 90R; Voltage Rating: 50V; Shielding: Unshielded; Manufacturer Name: Murata; Manufacturer Part No.: DLW21SN900SQ2; Supplier 1: Digi-Key; Supplier Part Number 1: 490-5137-1-ND; Manufacturer: Murata; Manufacturer Part Number: DLW21SN900SQ2L; RoHS: Yes; Category: Fixed Inductors; Stock 1: 67480; Mount: Surface Mount; Case/Package: 0805; Weight: 0.000388oz; Case Code (Imperial): 0805; Min Operating Temperature: -40°C; Max Operating Temperature: 85°C; Current Rating: 330mA; Current: 330mA; Composition: Wirewound; Termination: SMD/SMT; Max DC Current: 330mA; DC Current: 330mA; Military Standard: Not; Series Resistance: 350mR; Package Quantity: 1; Packaging: Tape and Reel; Length: 2mm; Height: 0.055inch; Depth: 1.4mm; Width: 0.047inch; Radiation Hardening: No; REACH SVHC: No SVHC; Lead Free: Lead Free; ComponentLink1URL: https://datasheet.ciiva.com/11799/0900766b80eb33c6-11799433.pdf?src-supplier=RSComponents; ComponentLink1Description: https://datasheet.ciiva.com/11799/0900766b80eb33c6-11799433.pdf?src-supplier=RSComponents; ComponentLink2URL: https://datasheet.ciiva.com/5740/5194-5740690.pdf?src-supplier=Farnell; ComponentLink2Description: https://datasheet.ciiva.com/5740/5194-5740690.pdf?src-supplier=Farnell; ComponentLink3URL: https://datasheet.ciiva.com/26793/dlw21sn900sq2l-26793341.pdf?src-supplier=IIIC; ComponentLink3Description: https://datasheet.ciiva.com/26793/dlw21sn900sq2l-26793341.pdf?src-supplier=IIIC; ComponentLink4URL: https://datasheet.ciiva.com/1007/l0114e-1007685.pdf?src-supplier=Digi-Key; ComponentLink4Description: https://datasheet.ciiva.com/1007/l0114e-1007685.pdf?src-supplier=Digi-Key; ComponentLink5URL: https://datasheet.ciiva.com/16434/l0114s0133dlw21s-16434086.pdf?src-supplier=Future+Electronics; ComponentLink5Description: https://datasheet.ciiva.com/16434/l0114s0133dlw21s-16434086.pdf?src-supplier=Future+Electronics; ComponentLink6URL: https://datasheet.ciiva.com/8002/5194-8002474.pdf?src-supplier=Element14; ComponentLink6Description: https://datasheet.ciiva.com/8002/5194-8002474.pdf?src-supplier=Element14; ComponentLink7URL: https://datasheet.ciiva.com/14124/ssdlw21s-data-e-14124575.pdf?src-supplier=Distrelec; ComponentLink7Description: https://datasheet.ciiva.com/14124/ssdlw21s-data-e-14124575.pdf?src-supplier=Distrelec; ComponentLink8URL: https://datasheet.ciiva.com/1007/l0114e-1007683.pdf?src-supplier=Digi-Key; ComponentLink8Description: https://datasheet.ciiva.com/1007/l0114e-1007683.pdf?src-supplier=Digi-Key; ComponentLink9URL: https://datasheet.ciiva.com/1007/l0114e-1007684.pdf?src-supplier=Digi-Key; ComponentLink9Description: https://datasheet.ciiva.com/1007/l0114e-1007684.pdf?src-supplier=Digi-Key; ComponentLink10URL: https://datasheet.ciiva.com/8506/l0114s0133dlw21s-8506328.pdf?src-supplier=Avnet; ComponentLink10Description: https://datasheet.ciiva.com/8506/l0114s0133dlw21s-8506328.pdf?src-supplier=Avnet; ComponentLink11URL: https://datasheet.ciiva.com/17246/l0114s0133dlw21s-17246826.pdf?src-supplier=Avnet+Europe; ComponentLink11Description: https://datasheet.ciiva.com/17246/l0114s0133dlw21s-17246826.pdf?src-supplier=Avnet+Europe; Value: 90R@100MHz
footprint T_Murata_DLW21SN900SQ2 (Common Mode Choke)
pins: 1, 2, 3, 4

## L_6.8uH_LPS4018-682MRB
designator L?, comment LPS4018-682MRB
Power inductor, shielded, 20/30% tol, SMT, RoHS, lead-free, halogen-free; Manufacturer: Coilcraft; Core Material: Ferrite; Tolerance: 20%; Max DC Current: 1.3A; Self Resonant Frequency: 50MHz; Test Frequency: 100kHz; Inductance: 6.8uH; RMS Current (Irms): 1A; DC Resistance (DCR): 150mR; Supplier 1: Mouser; Manufacturer Part Number: LPS4018-682MRB; RoHS: No; Category: Inductors; Weight: 0.003527oz; Min Operating Temperature: -40°C; Max Operating Temperature: 85°C; Shielding: Shielded; Termination: SMD/SMT; Package Quantity: 1; Saturation Current: 1.3A; Inductance Tolerance: 20%; Packaging: Cut Tape; Length: 4mm; Width: 4mm; Height: 1.7mm; REACH SVHC: No SVHC; ComponentLink1URL: https://datasheet.ciiva.com/46449/1805324-46449082.pdf?src-supplier=Element14; ComponentLink1Description: https://datasheet.ciiva.com/46449/1805324-46449082.pdf?src-supplier=Element14; ComponentLink2URL: https://datasheet.ciiva.com/46384/1805324-46384107.pdf?src-supplier=Element14; ComponentLink2Description: https://datasheet.ciiva.com/46384/1805324-46384107.pdf?src-supplier=Element14; Supplier Part Number 1: 994-LPS4018-682MRB
footprint L_LPS4018
pins: 1, 2

## L_22uF_2305-V-RC
designator L?, comment 22uH / 16.4A
FIXED IND 22UH 16.4A 7 MOHM TH
footprint L_2305-V-CR1910
pins: 1, 2

## L_47uH_B82472G6473M000
designator L?, comment 47uH / 1A
EPCOS         B82472G6473M000            Surface Mount Power Inductor, B82472G6 Series, 47 H,  20%, Shielded, 0.2 ohm, 1 A; Manufacturer: TDK EPCOS; Core Material: Ferrite; Max DC Current: 900mA; DC Resistance (DCR): 200mR; Test Frequency: 100kHz; Supplier 1: Farnell; Manufacturer Part Number: B82472G6473M000; RoHS: Yes; Category: Fixed Inductors; Stock 1: 316; Pricing 1: 1=1,45000, 50=0,87700, 100=0,82400, 250=0,73700, 500=0,63100, 1000=0,49700, 5000=0,49600 (EUR); Mount: Surface Mount; Case/Package: SMD/SMT; Number of Pins: 2; Weight: 0.052911oz; Inductance: 47uH; Saturation Current: 900mA; DC Current: 1A; Tolerance: 20%; Packaging: Tape and Reel; Shielding: Shielded; Package Quantity: 1000; Termination: SMD/SMT; RMS Current (Irms): 1A; Inductance Tolerance: 20%; Length: 7.3mm; Width: 7.3mm; Height: 4.5mm; Depth: 7.5mm; Military Standard: Not; REACH SVHC: No SVHC; ComponentLink1URL: https://datasheet.ciiva.com/22700/1899161-22700809.pdf?src-supplier=Element14; ComponentLink1Description: https://datasheet.ciiva.com/22700/1899161-22700809.pdf?src-supplier=Element14; ComponentLink2URL: https://datasheet.ciiva.com/4960/b82472g6-525414-4960587.pdf?src-supplier=Mouser; ComponentLink2Description: https://datasheet.ciiva.com/4960/b82472g6-525414-4960587.pdf?src-supplier=Mouser; ComponentLink3URL: https://datasheet.ciiva.com/8003/78362-8003421.pdf?src-supplier=Element14; ComponentLink3Description: https://datasheet.ciiva.com/8003/78362-8003421.pdf?src-supplier=Element14; Supplier Part Number 1: 1644573
footprint L_B82472G6473M000
pins: 1, 2